# EAGLE library part MP2303DN (library dword1511-pmic-dcdc)
3A 28V 340KHz synchronous rectified step-down converter
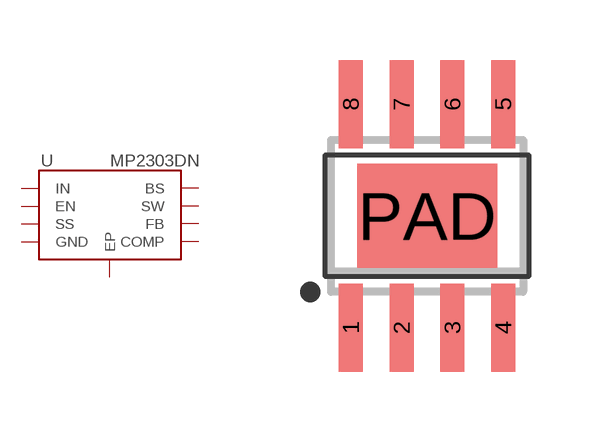
[diagram p15: symbol with the pads of SOIC-8P; footprint SOIC-8P]

Designator prefix U

## MP2303DN  [SOIC-8P]
1  BS  out
2  IN  pwr
3  SW  out
4  GND  pwr
5  FB  in
6  COMP  out
7  EN  in
8  SS  out
PAD  EP  pwr

## Footprint SOIC-8P (pad centres in mm)
smd 0.6 x 2.2: 1 -1.905,-2.794; 2 -0.635,-2.794; 3 0.635,-2.794; 4 1.905,-2.794; 5 1.905,2.794; 6 0.635,2.794; 7 -0.635,2.794; 8 -1.905,2.794
smd 3.5 x 2.6: PAD 0,0